# Altium footprint library resistor.PcbLib: 5 footprints
Each footprint in its own frame and in the unit in brackets; x right, y up, seen from the top. Pads: shape width x height; smd on the part's side, far side on the other; paste and mask are expansions set on the pad; w line width, h text height; cw(c..) or ccw(c..) is an arc to the next point about the centre after c.
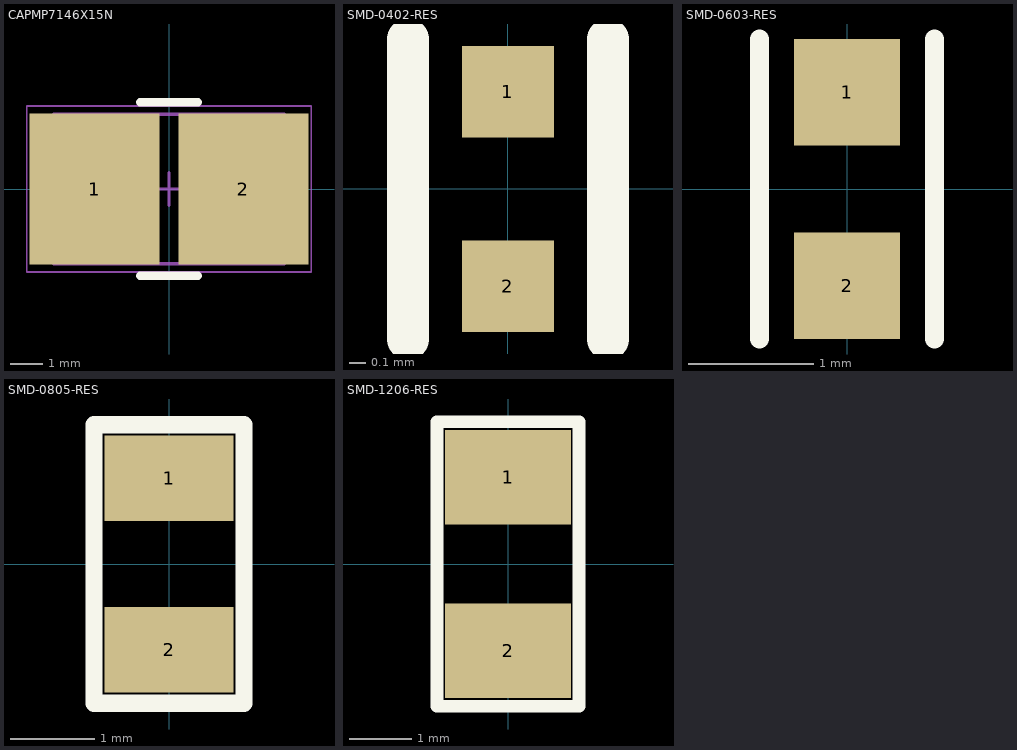
[diagram p0: the footprints below, top view; thin cyan lines are the x and y axes]

## CAPMP7146X15N [mm] "Molded Capacitor, 2-Leads, Body 7.10x4.60mm, IPC Medium Density"
height 1.5
pads (2):
  rect 4x4.65 smd: 1(-2.286,0) 2(2.286,0)
Top Overlay:
  lines w0.254: -0.889,-2.667 0.889,-2.667 ; -0.889,2.667 0.889,2.667
Mechanical 13:
  rectangle: -3.55,-2.3 -2.595,2.3
  lines w0.1: -3.55,-2.3 3.55,-2.3 3.55,2.3 -3.55,2.3 -3.55,-2.3
Mechanical 15:
  lines w0.05: -4.375,-2.55 4.375,-2.55 4.375,2.55 -4.375,2.55 -4.375,-2.55
  lines w0.1: -0.5,0 0.5,0 ; 0,-0.5 0,0.5
3D body "CAPMP7146X15N.step": height 1.5, standoff 0, extent -3.77,-2.3 3.77,2.3

## SMD-0402-RES [mm]
pads (2):
  rect 0.55x0.55 smd: 1(0,0.584) 2(0,-0.584)
Top Overlay:
  lines w0.254: -0.6,-0.9 -0.6,0.9 ; 0.6,-0.9 0.6,0.9
3D body "resistor0402.step": height 0.41, standoff 0, extent -0.275,-0.575 0.275,0.575

## SMD-0603-RES [mm]
pads (2):
  rect 0.85x0.85 smd: 1(0,0.775) 2(0,-0.775)
Top Overlay:
  lines w0.152: -0.7,-1.2 -0.7,1.2 ; 0.7,-1.2 0.7,1.2
3D body "0603.step": height 0.56, standoff 0, extent -0.4,-0.85 0.4,0.85

## SMD-0805-RES [mil]
pads (2):
  rect 60x40 smd: 1(0,40) 2(0,-40)
Top Overlay:
  lines w8: -35,-65 -35,65 35,65 35,-65 -35,-65
3D body "SW3dPS-0805 SMD Resistor.STEP": height 30.79, standoff 0, extent -23.6,-39.36 25.6,39.38

## SMD-1206-RES [mil]
pads (2):
  rect 80x60 smd: 1(0,55) 2(0,-55)
Top Overlay:
  lines w8: -45,-90 -45,90 45,90 45,-90 -45,-90
3D body "User Library-RES_3216-1206.step": height 33.46, standoff 0, extent -34.05,-65.94 34.06,65.95